# Altium footprint library UZ_D_Testboard.PcbLib: 6 footprints
Each footprint in its own frame and in the unit in brackets; x right, y up, seen from the top. Pads: shape width x height; smd on the part's side, far side on the other; paste and mask are expansions set on the pad; w line width, h text height; cw(c..) or ccw(c..) is an arc to the next point about the centre after c.
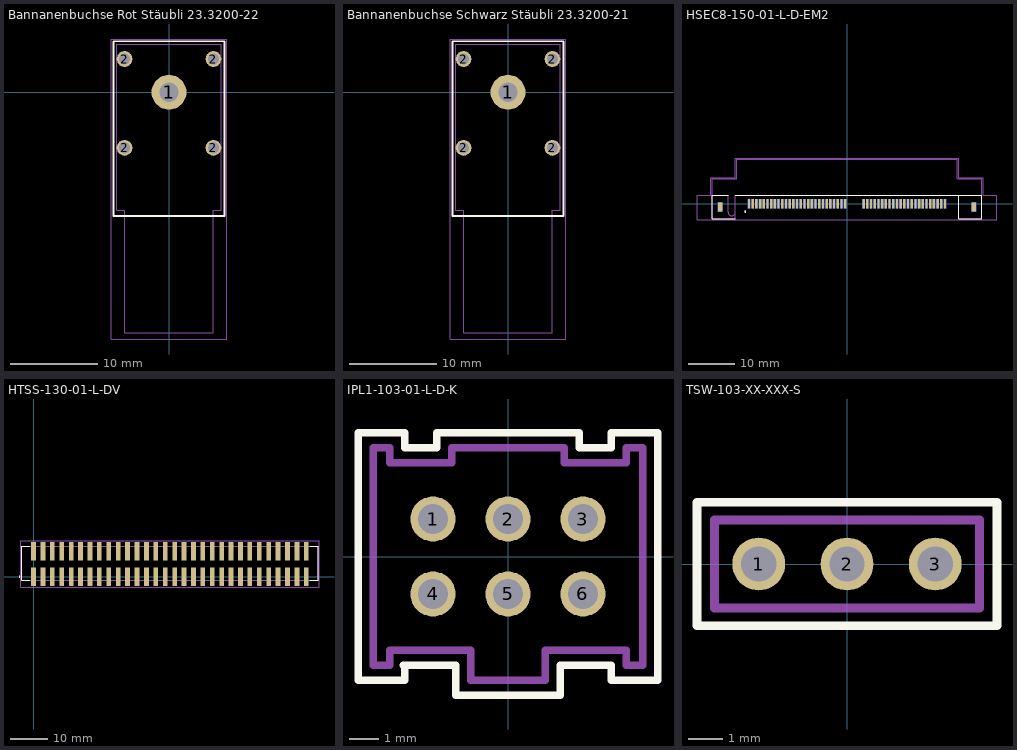
[diagram p0: the footprints below, top view; thin cyan lines are the x and y axes]

## Bannanenbuchse Rot Stäubli 23.3200-22 [mm] "Bananenstecker-Buchse, 4mm, Leiterplattenmontage, 24 A, 1 kV"
height 11.5
pads (5):
  round 4 hole 2.2: 1(0,0)
  round 1.8 hole 1.3: 2(-5.08,-6.36) 2(-5.08,3.8) 2(5.08,-6.36) 2(5.08,3.8)
Top Layer:
  lines w0.254: -0.275,0.275 0,0
Top Overlay:
  lines w0.2: -6.35,-14.138 6.35,-14.138 6.35,5.832 -6.35,5.832 -6.35,-14.138
Keep-Out Layer:
  board cut-out: 5.682,0.269
Top Courtyard:
  lines w0.05: -6.604,-28.204 -6.604,6.086 6.604,6.086 6.604,-28.204
  lines w0.1: -6.604,-28.204 6.604,-28.204
Top Assembly:
  lines w0.1: -6,-13.5 -6,5.5 6,5.5 6,-13.5 5.08,-13.5 5.08,-27.5 -5.08,-27.5 -5.08,-13.5 -6,-13.5
Mechanical 5:
  text ".Designator" at -0.37,-0.635 h0.76
3D body "10053171.stp": height 12.45, standoff -2.55, extent -6,-27.525 6,5.475

## Bannanenbuchse Schwarz Stäubli 23.3200-21 [mm] "Bananenstecker-Buchse, 4mm, Leiterplattenmontage, 24 A, 1 kV"
height 11.5
pads (5):
  round 4 hole 2.2: 1(0,0)
  round 1.8 hole 1.3: 2(-5.08,-6.36) 2(-5.08,3.8) 2(5.08,-6.36) 2(5.08,3.8)
Top Layer:
  lines w0.254: -0.275,0.275 0,0
Top Overlay:
  lines w0.2: -6.35,-14.138 6.35,-14.138 6.35,5.832 -6.35,5.832 -6.35,-14.138
Keep-Out Layer:
  board cut-out: 5.682,0.269
Top Courtyard:
  lines w0.05: -6.604,-28.204 -6.604,6.086 6.604,6.086 6.604,-28.204
  lines w0.1: -6.604,-28.204 6.604,-28.204
Top Assembly:
  lines w0.1: -6,-13.5 -6,5.5 6,5.5 6,-13.5 5.08,-13.5 5.08,-27.5 -5.08,-27.5 -5.08,-13.5 -6,-13.5
Mechanical 5:
  text ".Designator" at -0.37,-0.635 h0.76
3D body "10053171.stp": height 12.45, standoff -2.55, extent -6,-27.525 6,5.475

## HSEC8-150-01-L-D-EM2 [mm]
pads (104):
  rect 0.5x2 smd: 01(-21.2,0) 03(-20.4,0) 05(-19.6,0) 07(-18.8,0) 09(-18,0) 11(-17.2,0) 13(-16.4,0) 15(-15.6,0) 17(-14.8,0) 19(-14,0) 21(-13.2,0) 23(-12.4,0) 25(-11.6,0) 27(-10.8,0) 29(-10,0) 31(-9.2,0) 33(-8.4,0) 35(-7.6,0) 37(-6.8,0) 39(-6,0) 41(-5.2,0) 43(-4.4,0) 45(-3.6,0) 47(-2.8,0) 49(-2,0) 51(-1.2,0) 53(-0.4,0) 55(3.6,0) 57(4.4,0) 59(5.2,0) 61(6,0) 63(6.8,0) 65(7.6,0) 67(8.4,0) 69(9.2,0) 71(10,0) 73(10.8,0) 75(11.6,0) 77(12.4,0) 79(13.2,0) 81(14,0) 83(14.8,0) 85(15.6,0) 87(16.4,0) 89(17.2,0) 91(18,0) 93(18.8,0) 95(19.6,0) 97(20.4,0) 99(21.2,0)
  rect 0.5x2 smd far side: 02(-21.2,0) 04(-20.4,0) 06(-19.6,0) 08(-18.8,0) 10(-18,0) 12(-17.2,0) 14(-16.4,0) 16(-15.6,0) 18(-14.8,0) 20(-14,0) 22(-13.2,0) 24(-12.4,0) 26(-11.6,0) 28(-10.8,0) 30(-10,0) 32(-9.2,0) 34(-8.4,0) 36(-7.6,0) 38(-6.8,0) 40(-6,0) 42(-5.2,0) 44(-4.4,0) 46(-3.6,0) 48(-2.8,0) 50(-2,0) 52(-1.2,0) 54(-0.4,0) 56(3.6,0) 58(4.4,0) 60(5.2,0) 62(6,0) 64(6.8,0) 66(7.6,0) 68(8.4,0) 70(9.2,0) 72(10,0) 74(10.8,0) 76(11.6,0) 78(12.4,0) 80(13.2,0) 82(14,0) 84(14.8,0) 86(15.6,0) 88(16.4,0) 90(17.2,0) 92(18,0) 94(18.8,0) 96(19.6,0) 98(20.4,0) 100(21.2,0)
  rect 1x2 smd: S1(-27.45,-0.7) S3(27.45,-0.7)
  rect 1x2 smd far side: S2(-27.45,-0.7) S4(27.45,-0.7)
Top Overlay:
  circle w0.2: c-22,-1.7 r0.1
  lines w0.2: -25.725,1.8 -29.2,1.8 -29.2,-3.2 -28.3,-3.2 -24.21,-3.2 ; -24.175,1.8 24.21,1.8 ; 24.21,1.8 24.21,-3.2 28.3,-3.2 29.2,-3.2 29.2,1.8 24.21,1.8
Bottom Overlay:
  lines w0.2: -25.725,1.8 -29.2,1.8 -29.2,-3.2 -28.3,-3.2 -24.21,-3.2 ; -24.175,1.8 24.21,1.8 ; 24.21,1.8 24.21,-3.2 28.3,-3.2 29.2,-3.2 29.2,1.8 24.21,1.8
Mechanical 1:
  lines w0: -29.2,1.8 -25.725,1.8 -25.725,-1.8 ; 29.2,1.8 -24.175,1.8 -24.175,-1.8 ; -25.725,-1.8 ccw(c-24.95,-1.8) -24.95,-2.575 ; -25.725,-1.8 ccw(c-24.95,-1.8) -24.95,-2.575 ; -24.95,-2.575 ccw(c-24.95,-1.8) -24.176,-1.8 ; -24.95,-2.575 ccw(c-24.95,-1.8) -24.176,-1.8
Mechanical 5:
  circle w0.2: c-22,-1.7 r0.1
  lines w0.05: -32.45,-3.45 -29.45,-3.45 29.45,-3.45 32.45,-3.45 32.45,1.8 29.45,1.8 29.45,5.65 24.15,5.65 24.15,9.85 -24.15,9.85 -24.15,5.65 -29.45,5.65 -29.45,1.8 -32.45,1.8 -32.45,-3.45
  lines w0.1: -29.2,-3.2 -24.21,-3.2 ; -29.2,-3.2 -24.21,-3.2 ; -29.2,-3.2 -29.2,1.8 ; -29.2,-3.2 -29.2,1.8 ; -29.2,1.8 -25.725,1.8 ; -29.2,1.8 -25.725,1.8 ; -29.2,1.8 -29.2,5.4 ; -29.2,1.8 -29.2,5.4 ; -29.2,5.4 -23.9,5.4 ; -29.2,5.4 -23.9,5.4 ; -25.725,-1.8 ccw(c-24.95,-1.8) -24.95,-2.575 ; -25.725,-1.8 ccw(c-24.95,-1.8) -24.95,-2.575 ; -25.725,-1.8 -25.725,1.8 ; -25.725,-1.8 -25.725,1.8 ; -24.95,-2.575 ccw(c-24.95,-1.8) -24.176,-1.8 ; -24.95,-2.575 ccw(c-24.95,-1.8) -24.176,-1.8 ; -24.21,-3.2 -24.21,-2.03 -24.21,-3.2 ; -24.175,-1.8 -24.175,1.8 ; -24.175,-1.8 -24.175,1.8 ; -24.175,1.8 24.21,1.8 ; -24.175,1.8 24.21,1.8 ; -23.9,5.4 -23.9,9.6 ; -23.9,5.4 -23.9,9.6 ; -23.9,9.6 23.9,9.6 ; -23.9,9.6 23.9,9.6 ; 23.9,5.4 29.2,5.4 ; 23.9,5.4 29.2,5.4 ; 23.9,5.4 23.9,9.6 ; 23.9,5.4 23.9,9.6 ; 24.21,-3.2 29.2,-3.2 ; 24.21,-3.2 29.2,-3.2 ; 24.21,-3.2 24.21,1.8 ; 24.21,-3.2 24.21,1.8 ; 24.21,1.8 29.2,1.8 ; 24.21,1.8 29.2,1.8 ; 29.2,-3.2 29.2,1.8 ; 29.2,-3.2 29.2,1.8 ; 29.2,1.8 29.2,5.4 ; 29.2,1.8 29.2,5.4
  text ".Designator" at 0.773,-0.508 h0.76
  text "PCB EDGE" at -3,2 h0.81
Mechanical 15:
  lines w0.05: -32.45,-3.45 -32.45,1.8 -29.45,1.8 -29.45,5.65 -24.15,5.65 -24.15,9.85 24.15,9.85 24.15,5.65 29.45,5.65 29.45,1.8 32.45,1.8 32.45,-3.45 -32.45,-3.45
3D body "HSEC8-150-01-L-D-EM2.stp": height 3.72, standoff -3.95, extent -29.21,-3.497 29.19,9.652

## HTSS-130-01-L-DV [mil]
pads (60):
  rect 50x200 smd: 01(0,0) 02(0,270) 03(100,0) 04(100,270) 05(200,0) 06(200,270) 07(300,0) 08(300,270) 09(400,0) 10(400,270) 11(500,0) 12(500,270) 13(600,0) 14(600,270) 15(700,0) 16(700,270) 17(800,0) 18(800,270) 19(900,0) 20(900,270) 21(1000,0) 22(1000,270) 23(1100,0) 24(1100,270) 25(1200,0) 26(1200,270) 27(1300,0) 28(1300,270) 29(1400,0) 30(1400,270) 31(1500,0) 32(1500,270) 33(1600,0) 34(1600,270) 35(1700,0) 36(1700,270) 37(1800,0) 38(1800,270) 39(1900,0) 40(1900,270) 41(2000,0) 42(2000,270) 43(2100,0) 44(2100,270) 45(2200,0) 46(2200,270) 47(2300,0) 48(2300,270) 49(2400,0) 50(2400,270) 51(2500,0) 52(2500,270) 53(2600,0) 54(2600,270) 55(2700,0) 56(2700,270) 57(2800,0) 58(2800,270) 59(2900,0) 60(2900,270)
Top Overlay:
  circle w7.87: c-150.59,0 r3.94
  lines w7.87: -38.78,-40 -125,-40 -125,325 -38.78,325 ; 2938.78,-40 3025,-40 3025,325 2938.78,325
Mechanical 5:
  circle w7.87: c-150.59,0 r3.94
  lines w3.94: -125,-40 3025,-40 3025,325 -125,325 -125,-40
  text ".Designator" at 1425.43,120 h30
Mechanical 15:
  lines w1.97: -134.84,-109.84 3034.84,-109.84 3034.84,379.84 -134.84,379.84 -134.84,-109.84
3D body "HTSS-130-01-L-DV.stp": height 400, standoff 0, extent -124.99,-84.99 3025,355.01

## IPL1-103-01-L-D-K [mil]
pads (6):
  round 60 hole 40 mask+3: 1(-100,50) 2(0,50) 3(100,50) 4(-100,-50) 5(0,-50) 6(100,-50)
Top Overlay:
  lines w10: -140,-145 -70,-145 -70,-185 70,-185 70,-145 138,-145 138,-165 200,-165 200,165 138,165 138,145 95,145 95,165 -95,165 -95,145 -138,145 -138,165 -200,165 -200,-165 -138,-165 -138,-145
Mechanical 5:
  lines w10: -180,-145 -180,145 -158,145 -158,125 -75,125 -75,145 75,145 75,125 158,125 158,145 180,145 180,-145 158,-145 158,-125 50,-125 50,-165 -50,-165 -50,-125 -158,-125 -158,-145 -180,-145
  text ".Designator" at -34.57,-15 h30
3D body "IPL1-103-01-L-D-K.stp": height 320, standoff -120, extent -180,-165 180,145

## TSW-103-XX-XXX-S [mil]
pads (3):
  round 60 hole 40 mask+3: 1(-100,0) 2(0,0) 3(100,0)
Top Overlay:
  lines w10: -170,-70 -170,70 170,70 170,-70 -170,-70
Mechanical 5:
  lines w10: -150,-50 -150,50 150,50 150,-50 -150,-50
  text ".Designator" at -10.32,-20 h30
3D body "TSW-103-07-F-S.stp": height 330, standoff -100, extent -155,-50 150,50